# Altium footprint library FC68148S_2.PcbLib: 1 footprints
Each footprint in its own frame and in the unit in brackets; x right, y up, seen from the top. Pads: shape width x height; smd on the part's side, far side on the other; paste and mask are expansions set on the pad; w line width, h text height; cw(c..) or ccw(c..) is an arc to the next point about the centre after c.
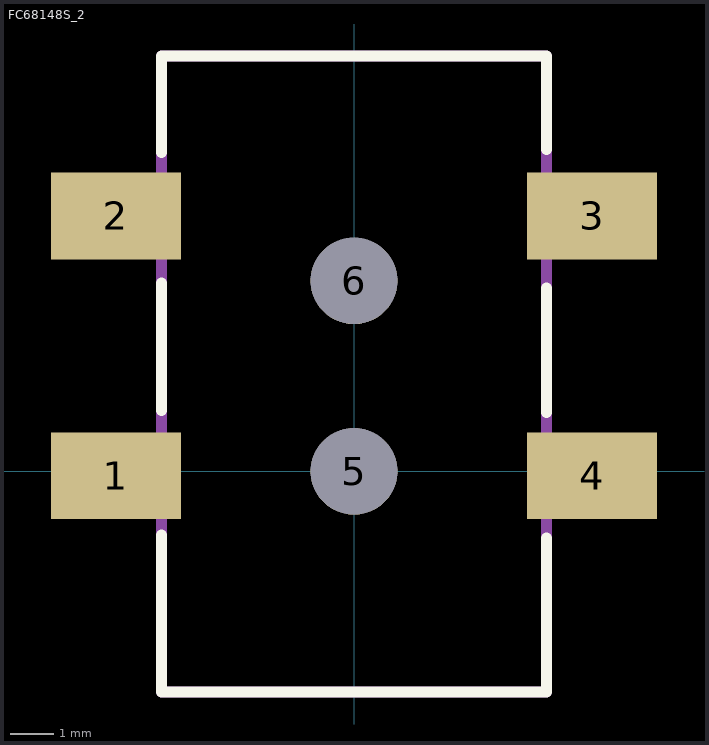
[diagram p0: the footprint, top view; thin cyan lines are the x and y axes]

## FC68148S_2 [mm]
pads (6):
  rect 3x2 smd: 1(-5.5,-0.1) 2(-5.5,5.9) 3(5.5,5.9) 4(5.5,-0.1)
  round 2 hole 2 unplated: 5(0,0) 6(0,4.4)
L26-Silk Screen Top (Multiple PADS layers...):
  lines w0.254: -4.45,-1.474 -4.45,-5.1 4.45,-5.1 4.45,-1.542 ; -4.45,1.406 -4.45,4.353 ; -4.45,7.368 -4.45,9.6 4.45,9.6 4.45,7.436 ; 4.45,1.361 4.45,4.241
L15 (Multiple PADS layers...):
  lines w0.254: -4.45,-5.1 -4.45,9.6 4.45,9.6 4.45,-5.1 -4.45,-5.1